# EAGLE library part S8B-XH-A (library toyotune)
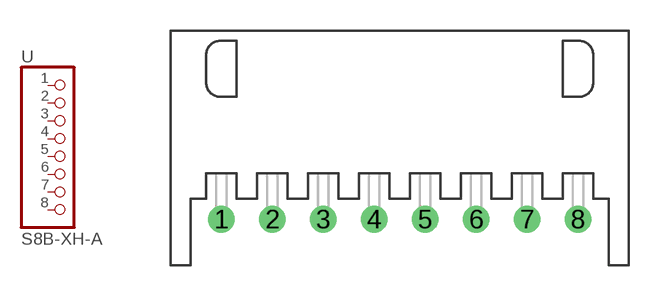
[diagram p60: symbol with the pads of JST-XH8; footprint JST-XH8]

Designator prefix -

## S8B-XH-A  [JST-XH8]
1  1  pas
2  2  pas
3  3  pas
4  4  pas
5  5  pas
6  6  pas
7  7  pas
8  8  pas

## Footprint JST-XH8 (pad centres in mm)
drill 0.8: 1 -8.76,-0.01; 2 -6.26,-0.01; 3 -3.76,-0.01; 4 -1.26,-0.01; 5 1.24,-0.01; 6 3.74,-0.01; 7 6.24,-0.01; 8 8.74,-0.01